# EAGLE library part TEENSY2-ARDUINO (library teensy2)
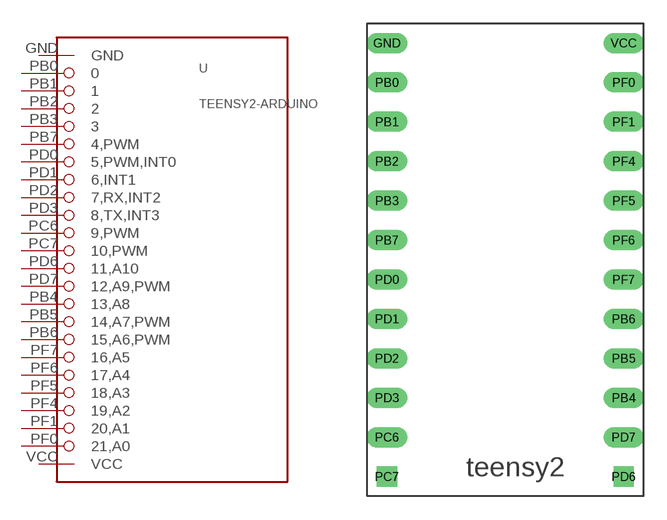
[diagram p1: symbol with the pads of TEENSY2; footprint TEENSY2]

Designator prefix -

## TEENSY2-ARDUINO  [TEENSY2]
GND  GND  pwr
PB0  0
PB1  1
PB2  2
PB3  3
PB4  13,A8
PB5  14,A7,PWM
PB6  15,A6,PWM
PB7  4,PWM
PC6  9,PWM
PC7  10,PWM
PD0  5,PWM,INT0
PD1  6,INT1
PD2  7,RX,INT2
PD3  8,TX,INT3
PD6  11,A10
PD7  12,A9,PWM
PF0  21,A0
PF1  20,A1
PF4  19,A2
PF5  18,A3
PF6  17,A4
PF7  16,A5
VCC  VCC  pwr

## Footprint TEENSY2 (pad centres in mm)
http://pjrc.com/teensy/index.html
drill 0.8 long: GND -7.62,21.59; PB0 -7.62,19.05; PB1 -7.62,16.51; PB2 -7.62,13.97; PB3 -7.62,11.43; PB4 7.62,-1.27; PB5 7.62,1.27; PB6 7.62,3.81; PB7 -7.62,8.89; PC6 -7.62,-3.81; PD0 -7.62,6.35; PD1 -7.62,3.81; PD2 -7.62,1.27; PD3 -7.62,-1.27; PD7 7.62,-3.81; PF0 7.62,19.05; PF1 7.62,16.51; PF4 7.62,13.97; PF5 7.62,11.43; PF6 7.62,8.89; PF7 7.62,6.35; VCC 7.62,21.59
drill 0.8 square: PC7 -7.62,-6.35; PD6 7.62,-6.35